# Altium schematic symbol library MYRLP330015F21RE.SchLib: 1 symbol
Pins are listed as number, name and electrical type; pins without a type are passive.

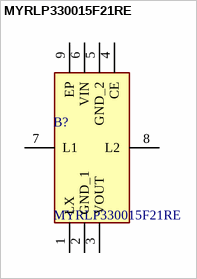
[diagram p0: symbol MYRLP330015F21RE]

## MYRLP330015F21RE
designator B?
Non-Isolated DC/DC Converters 150mA 1.8-6.0Vin 3.30Vout -40 to 85degC PWM; Manufacturer_Name: Murata Electronics; Geometry.Height: 1.04mm; Mouser Part Number: 580-MYRLP330015F21RE; Mouser Price/Stock: https://www.mouser.co.uk/ProductDetail/Murata-Power-Solutions/MYRLP330015F21RE?qs=vvQtp7zwQdNOX7V%2FydgWKA%3D%3D; Manufacturer_Part_Number: MYRLP330015F21RE; Datasheet Link: https://www.murata.com/products/productdata/8816917708830/MYRLP-F.pdf?1656300615000
footprint MYRLP330015F21RE
pins: 1 LX, 2 GND_1, 3 VOUT, 4 CE, 5 GND_2, 6 VIN, 7 L1, 8 L2, 9 EP